# Altium integrated library IR2136.IntLib: 1 symbol
Pins are listed as number, name and electrical type; pins without a type are passive.

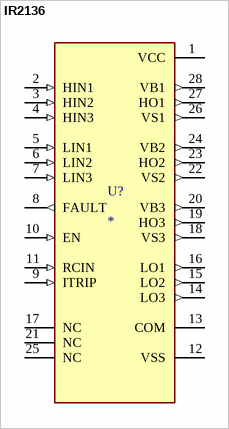
[diagram p0: symbol IR2136]

## IR2136
designator U?
Half-Bridge Gate Driver IC Inverting 44-PLCC, 32 Leads (16.58x16.58); MF: Infineon Technologies; MP: IR2136; Package: DIP-28 International Rectifier; Price: None; Value: *; SnapEDA_Link: https://www.snapeda.com/parts/IR2136/Infineon+Technologies/view-part/?ref=snap; Availability: In Stock; Check_prices: https://www.snapeda.com/parts/IR2136/Infineon+Technologies/view-part/?ref=eda
footprint DIP1524W45P254L3740H635Q28
pins: 1 VCC (power), 2 HIN1 (in), 3 HIN2 (in), 4 HIN3 (in), 5 LIN1 (in), 6 LIN2 (in), 7 LIN3 (in), 8 FAULT (out), 9 ITRIP (in), 10 EN (in), 11 RCIN (in), 12 VSS (power), 13 COM, 14 LO3 (out), 15 LO2 (out), 16 LO1 (out), 17 NC, 18 VS3 (out), 19 HO3 (out), 20 VB3 (out), 21 NC, 22 VS2 (out), 23 HO2 (out), 24 VB2 (out), 25 NC, 26 VS1 (out), 27 HO1 (out), 28 VB1 (out)